# Altium footprint library DesignIII.PcbLib: 4 footprints
Each footprint in its own frame and in the unit in brackets; x right, y up, seen from the top. Pads: shape width x height; smd on the part's side, far side on the other; paste and mask are expansions set on the pad; w line width, h text height; cw(c..) or ccw(c..) is an arc to the next point about the centre after c.
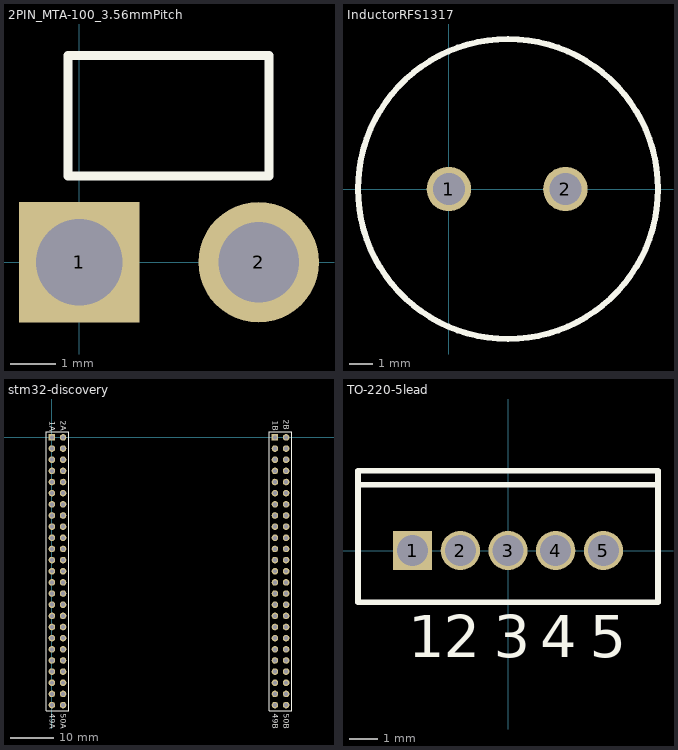
[diagram p0: the footprints below, top view; thin cyan lines are the x and y axes]

## 2PIN_MTA-100_3.56mmPitch [mil] "3.56mm pitch 2 pins MTA-100"
pads (2):
  rect 105x105 hole 75: 1(0,0)
  round 105 hole 70: 2(156,0)
Top Overlay:
  lines w7.87: -10,75 -10,180 165,180 165,75 -10,75
3D body: height 605, standoff -115, extent -71.49,-206.03 234.5,187.97

## InductorRFS1317 [mil] "thru-Hole"
height 630
pads (2):
  round 75 hole 54: 1(0,0) 2(197,0)
Top Overlay:
  circle w10: c100,0 r253.48

## stm32-discovery [mm] "Connector; Header; 25x2 Position"
pads (100):
  rect 1.5x1.5 hole 0.9: 1A(0,0) 1B(50.8,0)
  round 1.5 hole 0.9: 2A(2.54,0) 2B(53.34,0) 3A(0,-2.54) 3B(50.8,-2.54) 4A(2.54,-2.54) 4B(53.34,-2.54) 5A(0,-5.08) 5B(50.8,-5.08) 6A(2.54,-5.08) 6B(53.34,-5.08) 7A(0,-7.62) 7B(50.8,-7.62) 8A(2.54,-7.62) 8B(53.34,-7.62) 9A(0,-10.16) 9B(50.8,-10.16) 10A(2.54,-10.16) 10B(53.34,-10.16) 11A(0,-12.7) 11B(50.8,-12.7) 12A(2.54,-12.7) 12B(53.34,-12.7) 13A(0,-15.24) 13B(50.8,-15.24) 14A(2.54,-15.24) 14B(53.34,-15.24) 15A(0,-17.78) 15B(50.8,-17.78) 16A(2.54,-17.78) 16B(53.34,-17.78) 17A(0,-20.32) 17B(50.8,-20.32) 18A(2.54,-20.32) 18B(53.34,-20.32) 19A(0,-22.86) 19B(50.8,-22.86) 20A(2.54,-22.86) 20B(53.34,-22.86) 21A(0,-25.4) 21B(50.8,-25.4) 22A(2.54,-25.4) 22B(53.34,-25.4) 23A(0,-27.94) 23B(50.8,-27.94) 24A(2.54,-27.94) 24B(53.34,-27.94) 25A(0,-30.48) 25B(50.8,-30.48) 26A(2.54,-30.48) 26B(53.34,-30.48) 27A(0,-33.02) 27B(50.8,-33.02) 28A(2.54,-33.02) 28B(53.34,-33.02) 29A(0,-35.56) 29B(50.8,-35.56) 30A(2.54,-35.56) 30B(53.34,-35.56) 31A(0,-38.1) 31B(50.8,-38.1) 32A(2.54,-38.1) 32B(53.34,-38.1) 33A(0,-40.64) 33B(50.8,-40.64) 34A(2.54,-40.64) 34B(53.34,-40.64) 35A(0,-43.18) 35B(50.8,-43.18) 36A(2.54,-43.18) 36B(53.34,-43.18) 37A(0,-45.72) 37B(50.8,-45.72) 38A(2.54,-45.72) 38B(53.34,-45.72) 39A(0,-48.26) 39B(50.8,-48.26) 40A(2.54,-48.26) 40B(53.34,-48.26) 41A(0,-50.8) 41B(50.8,-50.8) 42A(2.54,-50.8) 42B(53.34,-50.8) 43A(0,-53.34) 43B(50.8,-53.34) 44A(2.54,-53.34) 44B(53.34,-53.34) 45A(0,-55.88) 45B(50.8,-55.88) 46A(2.54,-55.88) 46B(53.34,-55.88) 47A(0,-58.42) 47B(50.8,-58.42) 48A(2.54,-58.42) 48B(53.34,-58.42) 49A(0,-60.96) 49B(50.8,-60.96) 50A(2.54,-60.96) 50B(53.34,-60.96)
Top Overlay:
  lines w0.2: -1.27,-62.23 -1.27,1.27 3.81,1.27 3.81,-62.23 -1.27,-62.23 ; 49.53,-62.23 54.61,-62.23 54.61,1.27 49.53,1.27 49.53,-62.23
  text "50A" at 2.032,-62.992 h1.27
  text "49A" at -0.508,-62.992 h1.27
  text "1A" at -0.508,3.683 h1.27
  text "2A" at 2.032,3.81 h1.27
  text "2B" at 52.832,4.064 h1.27
  text "1B" at 50.292,3.81 h1.27
  text "49B" at 50.292,-62.992 h1.27
  text "50B" at 52.832,-62.992 h1.27
3D body: height 22.5, standoff -0.5, extent -5.81,-67.031 59.69,35.535

## TO-220-5lead [mm] "TO, Thru-Hole, Vertical, Heatsink Mounted; 5 In-Line Leads;"
height 22.9
pads (5):
  rect 1.4x1.4 hole 1.1: 1(-3.405,0)
  round 1.4 hole 1.1: 2(-1.7,0) 3(0,0) 4(1.7,0) 5(3.405,0)
Top Overlay:
  lines w0.2: -5.35,2.35 5.35,2.35 ; -5.35,-1.85 -5.35,2.85 5.35,2.85 5.35,-1.85 -5.35,-1.85
  text "3" at -0.508,-3.81 h1.5
  text "2" at -2.286,-3.81 h1.5
  text "1" at -3.556,-3.81 h1.5
  text "4" at 1.143,-3.81 h1.5
  text "5" at 2.921,-3.81 h1.5
3D body: height 19.3, standoff -9.55, extent -5.207,-1.752 4.953,3.048